# Altium footprint library WP7113SGD.PcbLib: 1 footprints
Each footprint in its own frame and in the unit in brackets; x right, y up, seen from the top. Pads: shape width x height; smd on the part's side, far side on the other; paste and mask are expansions set on the pad; w line width, h text height; cw(c..) or ccw(c..) is an arc to the next point about the centre after c.
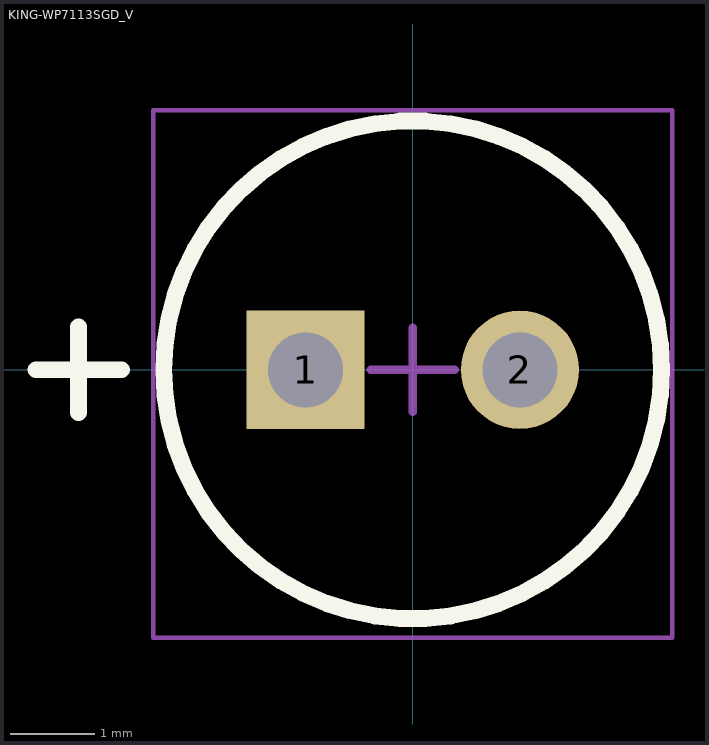
[diagram p0: the footprint, top view; thin cyan lines are the x and y axes]

## KING-WP7113SGD_V [mm] "THD, 2-Leads, Dia 5.9mm, Body Length 8.6mm"
height 15.5
pads (2):
  rect 1.4x1.4 hole 0.889: 1(-1.27,0)
  round 1.4 hole 0.889: 2(1.27,0)
Top Overlay:
  circle w0.2: c0,0 r2.95
  lines w0.2: -4.466,0 -3.45,0 ; -3.958,-0.508 -3.958,-0.254 -3.958,0.254 -3.958,0.508
Mechanical 13:
  circle w0.1: c0,0 r2.95
Mechanical 15:
  lines w0.05: -3.075,-3.175 -3.075,3.075 3.075,3.075 3.075,-3.175 -3.075,-3.175
  lines w0.1: -0.5,0 0.5,0 ; 0,-0.5 0,0.5
3D body "WP7113.STEP": height 15.5, standoff -20.1, extent -2.95,-2.95 2.5,2.95